# Altium integrated library TP4056.IntLib: 1 symbol
Pins are listed as number, name and electrical type; pins without a type are passive.

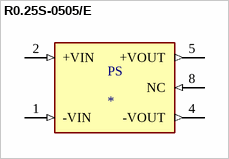
[diagram p0: symbol R0.25S-0505/E]

## R0.25S-0505/E
designator PS
0.25W DC/DC-Converter 'ECONOLINE' SMD 1kV unreg; MF: Recom Power; MP: R0.25S-0505/E; Availability: Bad; Price: None; SnapEDA_Link: https://www.snapeda.com/parts/R0.25S-0505/E/Recom%20Power/view-part/3627495/?ref=snap; Value: *; Mouser-Purchase-URL: https://snapeda.com/shop?store=Mouser&id=3627495; DigiKey-Purchase-URL: https://snapeda.com/shop?store=DigiKey&id=3627495; Package: - Recom Power
footprint CONV_R0.25S-0505/E
pins: 1 -VIN (in), 2 +VIN (in), 4 -VOUT (out), 5 +VOUT (out), 8 NC (in)